# Altium schematic symbol library generator.SchLib: 4 symbols
Pins are listed as number, name and electrical type; pins without a type are passive.

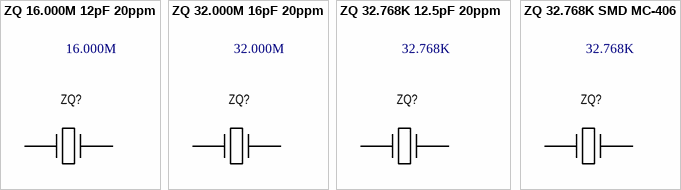
[diagram p0: symbols ZQ 16.000M 12pF 20ppm to ZQ 32.768K SMD MC-406]

## ZQ 16.000M 12pF 20ppm
designator ZQ?, comment 16.000M
Load 12pF 20ppm; PartNumber: 16.000MHzHC-49SM; Supplier: Chipdip; Unit Price: 15; WebLink: https://www.chipdip.ru/product/16mhz-hc-49sm?from=suggest_product
footprint HC49SMD
pins: 1, 2

## ZQ 32.000M 16pF 20ppm
designator ZQ?, comment 32.000M
Load 16pF 20ppm; PartNumber: NX3225SA-S1-3085- 1510-16-32MHZ; Supplier: Chipdip; Unit Price: 14; WebLink: https://www.chipdip.ru/product0/9000523937
footprint SMD 3225
pins: 1, 3

## ZQ 32.768K 12.5pF 20ppm
designator ZQ?, comment 32.768K
Load 12.5pF 20ppm; PartNumber: 32768Hz(2x6mm); Supplier: Chipdip; Unit Price: 12; WebLink: https://www.chipdip.ru/product/32768hz-2x6mm
footprint DT-26 (L=6mm D=2mm)
pins: 1, 2

## ZQ 32.768K SMD MC-406
designator ZQ?, comment 32.768K
Load pF 20ppm; PartNumber: MC-406 32.7680K-A0:ROHS; Supplier: Aliexpres; Unit Price: 12; WebLink: https://aliexpress.ru/item/32601588884.html?spm=a2g0o.productlist.0.0.5d611837OBsXxS&algo_pvid=913a1fce-be46-4f10-8485-a28e372c92db&algo_expid=913a1fce-be46-4f10-8485-a28e372c92db-15&btsid=2c280518-587a-4c74-a111-56e5e5136b66&ws_ab_test=searchweb0_0,searchweb201602_6,searchweb201603_53
footprint MC-406 SMD (SMD 8x3.2)
pins: 1, 4